# EAGLE library part B9PS-VH (library con-JST VH)
JST VH Series header 3.96mm pitch disconnectable crimp style connectors, horizontal (side entry type), 9 pins
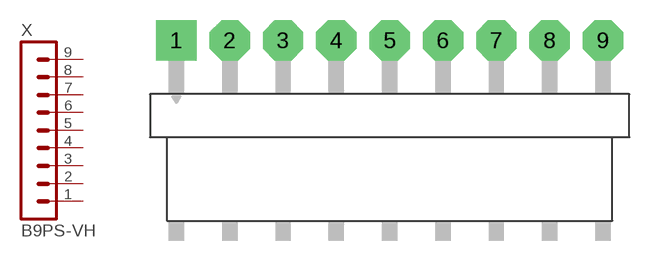
[diagram p9: symbol with the pads of B9PS-VH; footprint B9PS-VH]

Designator prefix X

## B9PS-VH  [B9PS-VH]
1  1  pas
2  2  pas
3  3  pas
4  4  pas
5  5  pas
6  6  pas
7  7  pas
8  8  pas
9  9  pas

## Footprint B9PS-VH (pad centres in mm)
JST VH Series header 3.96mm pitch disconnectable crimp style connectors, horizontal (side entry type), 9 pins
drill 1.7 pad 3 square: 1 -15.84,0
drill 1.7 pad 3 octagon: 2 -11.88,0; 3 -7.92,0; 4 -3.96,0; 5 0,0; 6 3.96,0; 7 7.92,0; 8 11.88,0; 9 15.84,0